# Altium schematic symbol library con-molex-mini-fit.SCHLIB: 168 symbols (part 1 of 4)
Pins are listed as number, name and electrical type; pins without a type are passive.

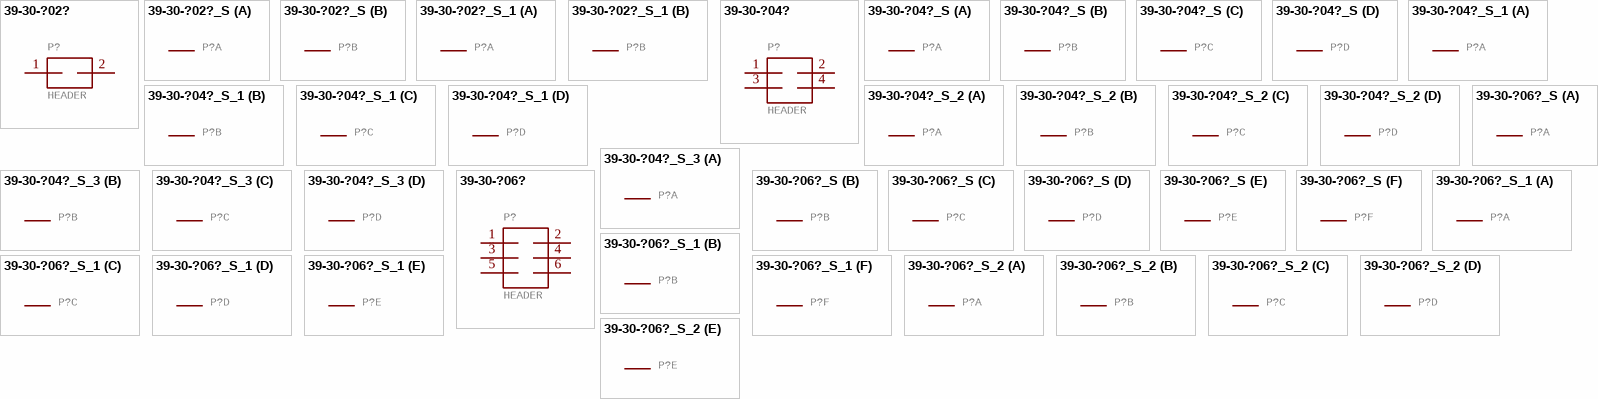
[diagram p0: symbols 39-30-?02? to 39-30-?06?_S_2]

## 39-30-?02?
designator P?, comment HEADER
GateName_1: G$1; SymbolName_1: MA01-2; DeviceSetName: 39-30-?02?; LibraryName: con-molex-mini-fit; Package: 39-30-?02?
footprint 39-30-?02?
pins: 1, 2

## 39-30-?02?_S
designator P?, comment HEADER  (value not drawn)
GateName_1: -1; SymbolName_1: P-NV; GateName_2: -2; SymbolName_2: P-N; DeviceSetName: 39-30-?02?_S; LibraryName: con-molex-mini-fit; Package: 39-30-?02?
footprint 39-30-?02?
part A pins: 1 P
part B pins: 2 P

## 39-30-?02?_S_1
designator P?, comment HEADER  (value not drawn)
GateName_1: -1; SymbolName_1: P-NV; GateName_2: -2; SymbolName_2: P-N; DeviceSetName: 39-30-?02?_S; LibraryName: con-molex-mini-fit; Package: 39-30-?02?
footprint 39-30-?02?
part A pins: 1 P
part B pins: 2 P

## 39-30-?04?
designator P?, comment HEADER
GateName_1: G$1; SymbolName_1: MA02-2; DeviceSetName: 39-30-?04?; LibraryName: con-molex-mini-fit; Package: 39-30-?04?
footprint 39-30-?04?
pins: 1, 2, 3, 4

## 39-30-?04?_S
designator P?, comment HEADER  (value not drawn)
GateName_1: -1; SymbolName_1: P-NV; GateName_2: -2; SymbolName_2: P-N; GateName_3: -3; GateName_4: -4; DeviceSetName: 39-30-?04?_S; SymbolName_3: P-N; SymbolName_4: P-N; LibraryName: con-molex-mini-fit; Package: 39-30-?04?
footprint 39-30-?04?
part A pins: 1 P
part B pins: 2 P
part C pins: 3 P
part D pins: 4 P

## 39-30-?04?_S_1
designator P?, comment HEADER  (value not drawn)
GateName_1: -1; SymbolName_1: P-NV; GateName_2: -2; SymbolName_2: P-N; GateName_3: -3; GateName_4: -4; DeviceSetName: 39-30-?04?_S; SymbolName_3: P-N; SymbolName_4: P-N; LibraryName: con-molex-mini-fit; Package: 39-30-?04?
footprint 39-30-?04?
part A pins: 1 P
part B pins: 2 P
part C pins: 3 P
part D pins: 4 P

## 39-30-?04?_S_2
designator P?, comment HEADER  (value not drawn)
GateName_1: -1; SymbolName_1: P-NV; GateName_2: -2; SymbolName_2: P-N; GateName_3: -3; GateName_4: -4; DeviceSetName: 39-30-?04?_S; SymbolName_3: P-N; SymbolName_4: P-N; LibraryName: con-molex-mini-fit; Package: 39-30-?04?
footprint 39-30-?04?
part A pins: 1 P
part B pins: 2 P
part C pins: 3 P
part D pins: 4 P

## 39-30-?04?_S_3
designator P?, comment HEADER  (value not drawn)
GateName_1: -1; SymbolName_1: P-NV; GateName_2: -2; SymbolName_2: P-N; GateName_3: -3; GateName_4: -4; DeviceSetName: 39-30-?04?_S; SymbolName_3: P-N; SymbolName_4: P-N; LibraryName: con-molex-mini-fit; Package: 39-30-?04?
footprint 39-30-?04?
part A pins: 1 P
part B pins: 2 P
part C pins: 3 P
part D pins: 4 P

## 39-30-?06?
designator P?, comment HEADER
GateName_1: G$1; SymbolName_1: MA03-2; DeviceSetName: 39-30-?06?; LibraryName: con-molex-mini-fit; Package: 39-30-?06?
footprint 39-30-?06?
pins: 1, 2, 3, 4, 5, 6

## 39-30-?06?_S
designator P?, comment HEADER  (value not drawn)
GateName_1: -1; SymbolName_1: P-NV; GateName_2: -2; SymbolName_2: P-N; GateName_3: -3; GateName_4: -4; GateName_5: -5; GateName_6: -6; DeviceSetName: 39-30-?06?_S; SymbolName_3: P-N; SymbolName_4: P-N; SymbolName_5: P-N; SymbolName_6: P-N; LibraryName: con-molex-mini-fit; Package: 39-30-?06?
footprint 39-30-?06?
part A pins: 1 P
part B pins: 2 P
part C pins: 3 P
part D pins: 4 P
part E pins: 5 P
part F pins: 6 P

## 39-30-?06?_S_1
designator P?, comment HEADER  (value not drawn)
GateName_1: -1; SymbolName_1: P-NV; GateName_2: -2; SymbolName_2: P-N; GateName_3: -3; GateName_4: -4; GateName_5: -5; GateName_6: -6; DeviceSetName: 39-30-?06?_S; SymbolName_3: P-N; SymbolName_4: P-N; SymbolName_5: P-N; SymbolName_6: P-N; LibraryName: con-molex-mini-fit; Package: 39-30-?06?
footprint 39-30-?06?
part A pins: 1 P
part B pins: 2 P
part C pins: 3 P
part D pins: 4 P
part E pins: 5 P
part F pins: 6 P

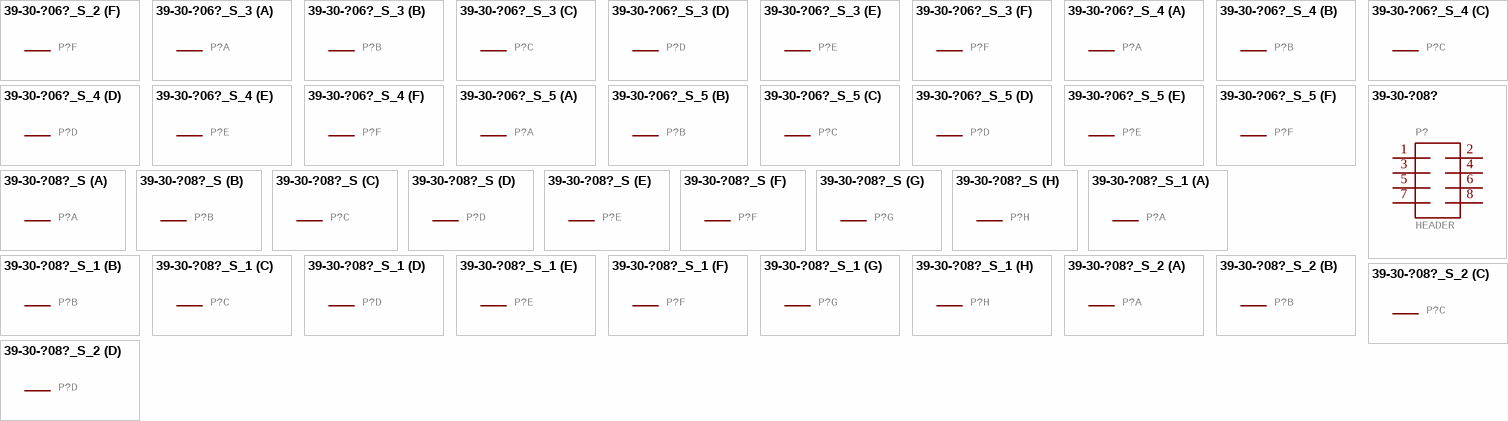
[diagram p1: symbols 39-30-?06?_S_2 to 39-30-?08?_S_2]

## 39-30-?06?_S_2
designator P?, comment HEADER  (value not drawn)
GateName_1: -1; SymbolName_1: P-NV; GateName_2: -2; SymbolName_2: P-N; GateName_3: -3; GateName_4: -4; GateName_5: -5; GateName_6: -6; DeviceSetName: 39-30-?06?_S; SymbolName_3: P-N; SymbolName_4: P-N; SymbolName_5: P-N; SymbolName_6: P-N; LibraryName: con-molex-mini-fit; Package: 39-30-?06?
footprint 39-30-?06?
part A pins: 1 P
part B pins: 2 P
part C pins: 3 P
part D pins: 4 P
part E pins: 5 P
part F pins: 6 P

## 39-30-?06?_S_3
designator P?, comment HEADER  (value not drawn)
GateName_1: -1; SymbolName_1: P-NV; GateName_2: -2; SymbolName_2: P-N; GateName_3: -3; GateName_4: -4; GateName_5: -5; GateName_6: -6; DeviceSetName: 39-30-?06?_S; SymbolName_3: P-N; SymbolName_4: P-N; SymbolName_5: P-N; SymbolName_6: P-N; LibraryName: con-molex-mini-fit; Package: 39-30-?06?
footprint 39-30-?06?
part A pins: 1 P
part B pins: 2 P
part C pins: 3 P
part D pins: 4 P
part E pins: 5 P
part F pins: 6 P

## 39-30-?06?_S_4
designator P?, comment HEADER  (value not drawn)
GateName_1: -1; SymbolName_1: P-NV; GateName_2: -2; SymbolName_2: P-N; GateName_3: -3; GateName_4: -4; GateName_5: -5; GateName_6: -6; DeviceSetName: 39-30-?06?_S; SymbolName_3: P-N; SymbolName_4: P-N; SymbolName_5: P-N; SymbolName_6: P-N; LibraryName: con-molex-mini-fit; Package: 39-30-?06?
footprint 39-30-?06?
part A pins: 1 P
part B pins: 2 P
part C pins: 3 P
part D pins: 4 P
part E pins: 5 P
part F pins: 6 P

## 39-30-?06?_S_5
designator P?, comment HEADER  (value not drawn)
GateName_1: -1; SymbolName_1: P-NV; GateName_2: -2; SymbolName_2: P-N; GateName_3: -3; GateName_4: -4; GateName_5: -5; GateName_6: -6; DeviceSetName: 39-30-?06?_S; SymbolName_3: P-N; SymbolName_4: P-N; SymbolName_5: P-N; SymbolName_6: P-N; LibraryName: con-molex-mini-fit; Package: 39-30-?06?
footprint 39-30-?06?
part A pins: 1 P
part B pins: 2 P
part C pins: 3 P
part D pins: 4 P
part E pins: 5 P
part F pins: 6 P

## 39-30-?08?
designator P?, comment HEADER
GateName_1: G$1; SymbolName_1: MA04-2; DeviceSetName: 39-30-?08?; LibraryName: con-molex-mini-fit; Package: 39-30-?08?
footprint 39-30-?08?
pins: 1, 2, 3, 4, 5, 6, 7, 8

## 39-30-?08?_S
designator P?, comment HEADER  (value not drawn)
GateName_1: -1; SymbolName_1: P-NV; GateName_2: -2; SymbolName_2: P-N; GateName_3: -3; GateName_4: -4; GateName_5: -5; GateName_6: -6; GateName_7: -7; GateName_8: -8; DeviceSetName: 39-30-?08?_S; SymbolName_3: P-N; SymbolName_4: P-N; SymbolName_5: P-N; SymbolName_6: P-N; SymbolName_7: P-N; SymbolName_8: P-N; LibraryName: con-molex-mini-fit; Package: 39-30-?08?
footprint 39-30-?08?
part A pins: 1 P
part B pins: 2 P
part C pins: 3 P
part D pins: 4 P
part E pins: 5 P
part F pins: 6 P
part G pins: 7 P
part H pins: 8 P

## 39-30-?08?_S_1
designator P?, comment HEADER  (value not drawn)
GateName_1: -1; SymbolName_1: P-NV; GateName_2: -2; SymbolName_2: P-N; GateName_3: -3; GateName_4: -4; GateName_5: -5; GateName_6: -6; GateName_7: -7; GateName_8: -8; DeviceSetName: 39-30-?08?_S; SymbolName_3: P-N; SymbolName_4: P-N; SymbolName_5: P-N; SymbolName_6: P-N; SymbolName_7: P-N; SymbolName_8: P-N; LibraryName: con-molex-mini-fit; Package: 39-30-?08?
footprint 39-30-?08?
part A pins: 1 P
part B pins: 2 P
part C pins: 3 P
part D pins: 4 P
part E pins: 5 P
part F pins: 6 P
part G pins: 7 P
part H pins: 8 P

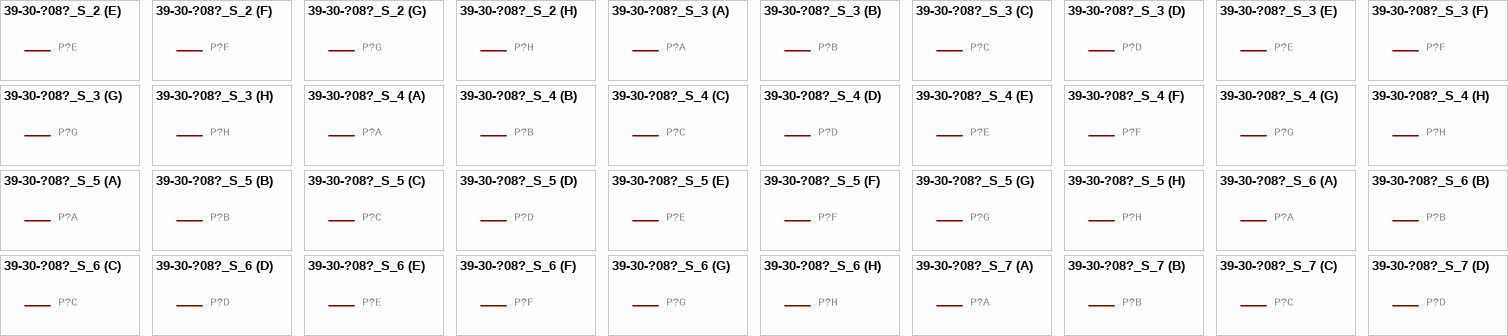
[diagram p2: symbols 39-30-?08?_S_2 to 39-30-?08?_S_7]

## 39-30-?08?_S_2
designator P?, comment HEADER  (value not drawn)
GateName_1: -1; SymbolName_1: P-NV; GateName_2: -2; SymbolName_2: P-N; GateName_3: -3; GateName_4: -4; GateName_5: -5; GateName_6: -6; GateName_7: -7; GateName_8: -8; DeviceSetName: 39-30-?08?_S; SymbolName_3: P-N; SymbolName_4: P-N; SymbolName_5: P-N; SymbolName_6: P-N; SymbolName_7: P-N; SymbolName_8: P-N; LibraryName: con-molex-mini-fit; Package: 39-30-?08?
footprint 39-30-?08?
part A pins: 1 P
part B pins: 2 P
part C pins: 3 P
part D pins: 4 P
part E pins: 5 P
part F pins: 6 P
part G pins: 7 P
part H pins: 8 P

## 39-30-?08?_S_3
designator P?, comment HEADER  (value not drawn)
GateName_1: -1; SymbolName_1: P-NV; GateName_2: -2; SymbolName_2: P-N; GateName_3: -3; GateName_4: -4; GateName_5: -5; GateName_6: -6; GateName_7: -7; GateName_8: -8; DeviceSetName: 39-30-?08?_S; SymbolName_3: P-N; SymbolName_4: P-N; SymbolName_5: P-N; SymbolName_6: P-N; SymbolName_7: P-N; SymbolName_8: P-N; LibraryName: con-molex-mini-fit; Package: 39-30-?08?
footprint 39-30-?08?
part A pins: 1 P
part B pins: 2 P
part C pins: 3 P
part D pins: 4 P
part E pins: 5 P
part F pins: 6 P
part G pins: 7 P
part H pins: 8 P

## 39-30-?08?_S_4
designator P?, comment HEADER  (value not drawn)
GateName_1: -1; SymbolName_1: P-NV; GateName_2: -2; SymbolName_2: P-N; GateName_3: -3; GateName_4: -4; GateName_5: -5; GateName_6: -6; GateName_7: -7; GateName_8: -8; DeviceSetName: 39-30-?08?_S; SymbolName_3: P-N; SymbolName_4: P-N; SymbolName_5: P-N; SymbolName_6: P-N; SymbolName_7: P-N; SymbolName_8: P-N; LibraryName: con-molex-mini-fit; Package: 39-30-?08?
footprint 39-30-?08?
part A pins: 1 P
part B pins: 2 P
part C pins: 3 P
part D pins: 4 P
part E pins: 5 P
part F pins: 6 P
part G pins: 7 P
part H pins: 8 P

## 39-30-?08?_S_5
designator P?, comment HEADER  (value not drawn)
GateName_1: -1; SymbolName_1: P-NV; GateName_2: -2; SymbolName_2: P-N; GateName_3: -3; GateName_4: -4; GateName_5: -5; GateName_6: -6; GateName_7: -7; GateName_8: -8; DeviceSetName: 39-30-?08?_S; SymbolName_3: P-N; SymbolName_4: P-N; SymbolName_5: P-N; SymbolName_6: P-N; SymbolName_7: P-N; SymbolName_8: P-N; LibraryName: con-molex-mini-fit; Package: 39-30-?08?
footprint 39-30-?08?
part A pins: 1 P
part B pins: 2 P
part C pins: 3 P
part D pins: 4 P
part E pins: 5 P
part F pins: 6 P
part G pins: 7 P
part H pins: 8 P

## 39-30-?08?_S_6
designator P?, comment HEADER  (value not drawn)
GateName_1: -1; SymbolName_1: P-NV; GateName_2: -2; SymbolName_2: P-N; GateName_3: -3; GateName_4: -4; GateName_5: -5; GateName_6: -6; GateName_7: -7; GateName_8: -8; DeviceSetName: 39-30-?08?_S; SymbolName_3: P-N; SymbolName_4: P-N; SymbolName_5: P-N; SymbolName_6: P-N; SymbolName_7: P-N; SymbolName_8: P-N; LibraryName: con-molex-mini-fit; Package: 39-30-?08?
footprint 39-30-?08?
part A pins: 1 P
part B pins: 2 P
part C pins: 3 P
part D pins: 4 P
part E pins: 5 P
part F pins: 6 P
part G pins: 7 P
part H pins: 8 P

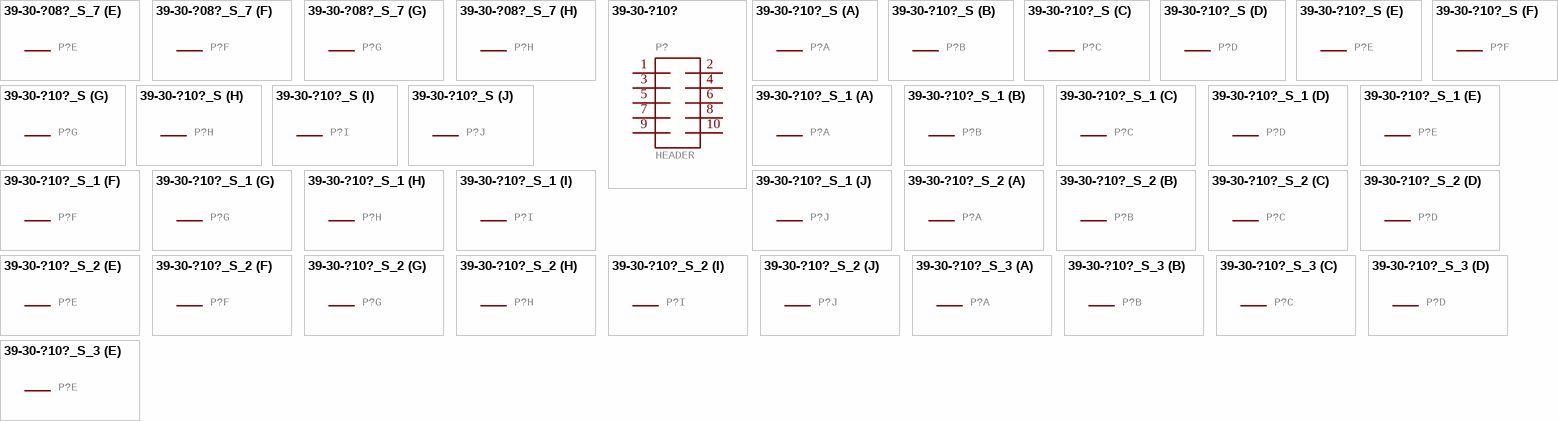
[diagram p3: symbols 39-30-?08?_S_7 to 39-30-?10?_S_3]

## 39-30-?08?_S_7
designator P?, comment HEADER  (value not drawn)
GateName_1: -1; SymbolName_1: P-NV; GateName_2: -2; SymbolName_2: P-N; GateName_3: -3; GateName_4: -4; GateName_5: -5; GateName_6: -6; GateName_7: -7; GateName_8: -8; DeviceSetName: 39-30-?08?_S; SymbolName_3: P-N; SymbolName_4: P-N; SymbolName_5: P-N; SymbolName_6: P-N; SymbolName_7: P-N; SymbolName_8: P-N; LibraryName: con-molex-mini-fit; Package: 39-30-?08?
footprint 39-30-?08?
part A pins: 1 P
part B pins: 2 P
part C pins: 3 P
part D pins: 4 P
part E pins: 5 P
part F pins: 6 P
part G pins: 7 P
part H pins: 8 P

## 39-30-?10?
designator P?, comment HEADER
GateName_1: G$1; SymbolName_1: MA05-2; DeviceSetName: 39-30-?10?; LibraryName: con-molex-mini-fit; Package: 39-30-?10?
footprint 39-30-?10?
pins: 1, 2, 3, 4, 5, 6, 7, 8, 9, 10

## 39-30-?10?_S
designator P?, comment HEADER  (value not drawn)
GateName_1: -1; SymbolName_1: P-NV; GateName_2: -2; SymbolName_2: P-N; GateName_3: -3; GateName_4: -4; GateName_5: -5; GateName_6: -6; GateName_7: -7; GateName_8: -8; GateName_9: -9; GateName_10: -10; DeviceSetName: 39-30-?10?_S; SymbolName_3: P-N; SymbolName_4: P-N; SymbolName_5: P-N; SymbolName_6: P-N; SymbolName_7: P-N; SymbolName_8: P-N; SymbolName_9: P-N; SymbolName_10: P-N; LibraryName: con-molex-mini-fit; Package: 39-30-?10?
footprint 39-30-?10?
part A pins: 1 P
part B pins: 2 P
part C pins: 3 P
part D pins: 4 P
part E pins: 5 P
part F pins: 6 P
part G pins: 7 P
part H pins: 8 P
part I pins: 9 P
part J pins: 10 P

## 39-30-?10?_S_1
designator P?, comment HEADER  (value not drawn)
GateName_1: -1; SymbolName_1: P-NV; GateName_2: -2; SymbolName_2: P-N; GateName_3: -3; GateName_4: -4; GateName_5: -5; GateName_6: -6; GateName_7: -7; GateName_8: -8; GateName_9: -9; GateName_10: -10; DeviceSetName: 39-30-?10?_S; SymbolName_3: P-N; SymbolName_4: P-N; SymbolName_5: P-N; SymbolName_6: P-N; SymbolName_7: P-N; SymbolName_8: P-N; SymbolName_9: P-N; SymbolName_10: P-N; LibraryName: con-molex-mini-fit; Package: 39-30-?10?
footprint 39-30-?10?
part A pins: 1 P
part B pins: 2 P
part C pins: 3 P
part D pins: 4 P
part E pins: 5 P
part F pins: 6 P
part G pins: 7 P
part H pins: 8 P
part I pins: 9 P
part J pins: 10 P

## 39-30-?10?_S_2
designator P?, comment HEADER  (value not drawn)
GateName_1: -1; SymbolName_1: P-NV; GateName_2: -2; SymbolName_2: P-N; GateName_3: -3; GateName_4: -4; GateName_5: -5; GateName_6: -6; GateName_7: -7; GateName_8: -8; GateName_9: -9; GateName_10: -10; DeviceSetName: 39-30-?10?_S; SymbolName_3: P-N; SymbolName_4: P-N; SymbolName_5: P-N; SymbolName_6: P-N; SymbolName_7: P-N; SymbolName_8: P-N; SymbolName_9: P-N; SymbolName_10: P-N; LibraryName: con-molex-mini-fit; Package: 39-30-?10?
footprint 39-30-?10?
part A pins: 1 P
part B pins: 2 P
part C pins: 3 P
part D pins: 4 P
part E pins: 5 P
part F pins: 6 P
part G pins: 7 P
part H pins: 8 P
part I pins: 9 P
part J pins: 10 P

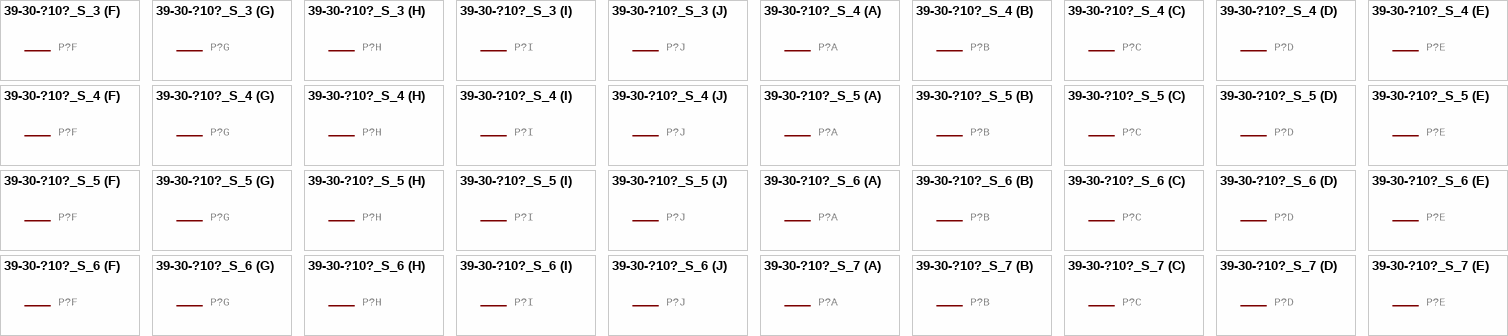
[diagram p4: symbols 39-30-?10?_S_3 to 39-30-?10?_S_7]

## 39-30-?10?_S_3
designator P?, comment HEADER  (value not drawn)
GateName_1: -1; SymbolName_1: P-NV; GateName_2: -2; SymbolName_2: P-N; GateName_3: -3; GateName_4: -4; GateName_5: -5; GateName_6: -6; GateName_7: -7; GateName_8: -8; GateName_9: -9; GateName_10: -10; DeviceSetName: 39-30-?10?_S; SymbolName_3: P-N; SymbolName_4: P-N; SymbolName_5: P-N; SymbolName_6: P-N; SymbolName_7: P-N; SymbolName_8: P-N; SymbolName_9: P-N; SymbolName_10: P-N; LibraryName: con-molex-mini-fit; Package: 39-30-?10?
footprint 39-30-?10?
part A pins: 1 P
part B pins: 2 P
part C pins: 3 P
part D pins: 4 P
part E pins: 5 P
part F pins: 6 P
part G pins: 7 P
part H pins: 8 P
part I pins: 9 P
part J pins: 10 P

## 39-30-?10?_S_4
designator P?, comment HEADER  (value not drawn)
GateName_1: -1; SymbolName_1: P-NV; GateName_2: -2; SymbolName_2: P-N; GateName_3: -3; GateName_4: -4; GateName_5: -5; GateName_6: -6; GateName_7: -7; GateName_8: -8; GateName_9: -9; GateName_10: -10; DeviceSetName: 39-30-?10?_S; SymbolName_3: P-N; SymbolName_4: P-N; SymbolName_5: P-N; SymbolName_6: P-N; SymbolName_7: P-N; SymbolName_8: P-N; SymbolName_9: P-N; SymbolName_10: P-N; LibraryName: con-molex-mini-fit; Package: 39-30-?10?
footprint 39-30-?10?
part A pins: 1 P
part B pins: 2 P
part C pins: 3 P
part D pins: 4 P
part E pins: 5 P
part F pins: 6 P
part G pins: 7 P
part H pins: 8 P
part I pins: 9 P
part J pins: 10 P

## 39-30-?10?_S_5
designator P?, comment HEADER  (value not drawn)
GateName_1: -1; SymbolName_1: P-NV; GateName_2: -2; SymbolName_2: P-N; GateName_3: -3; GateName_4: -4; GateName_5: -5; GateName_6: -6; GateName_7: -7; GateName_8: -8; GateName_9: -9; GateName_10: -10; DeviceSetName: 39-30-?10?_S; SymbolName_3: P-N; SymbolName_4: P-N; SymbolName_5: P-N; SymbolName_6: P-N; SymbolName_7: P-N; SymbolName_8: P-N; SymbolName_9: P-N; SymbolName_10: P-N; LibraryName: con-molex-mini-fit; Package: 39-30-?10?
footprint 39-30-?10?
part A pins: 1 P
part B pins: 2 P
part C pins: 3 P
part D pins: 4 P
part E pins: 5 P
part F pins: 6 P
part G pins: 7 P
part H pins: 8 P
part I pins: 9 P
part J pins: 10 P

## 39-30-?10?_S_6
designator P?, comment HEADER  (value not drawn)
GateName_1: -1; SymbolName_1: P-NV; GateName_2: -2; SymbolName_2: P-N; GateName_3: -3; GateName_4: -4; GateName_5: -5; GateName_6: -6; GateName_7: -7; GateName_8: -8; GateName_9: -9; GateName_10: -10; DeviceSetName: 39-30-?10?_S; SymbolName_3: P-N; SymbolName_4: P-N; SymbolName_5: P-N; SymbolName_6: P-N; SymbolName_7: P-N; SymbolName_8: P-N; SymbolName_9: P-N; SymbolName_10: P-N; LibraryName: con-molex-mini-fit; Package: 39-30-?10?
footprint 39-30-?10?
part A pins: 1 P
part B pins: 2 P
part C pins: 3 P
part D pins: 4 P
part E pins: 5 P
part F pins: 6 P
part G pins: 7 P
part H pins: 8 P
part I pins: 9 P
part J pins: 10 P

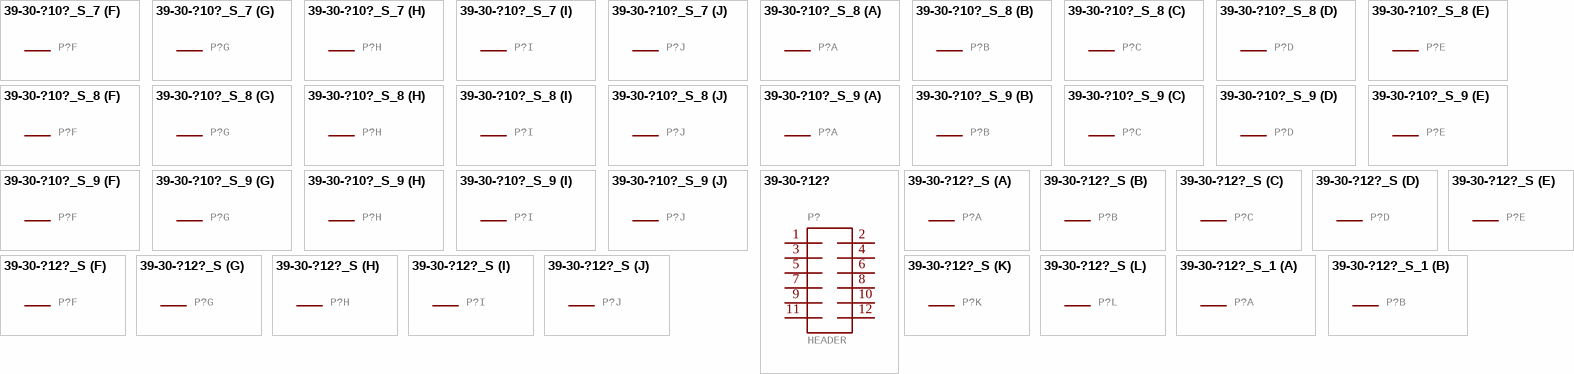
[diagram p5: symbols 39-30-?10?_S_7 to 39-30-?12?_S_1]

## 39-30-?10?_S_7
designator P?, comment HEADER  (value not drawn)
GateName_1: -1; SymbolName_1: P-NV; GateName_2: -2; SymbolName_2: P-N; GateName_3: -3; GateName_4: -4; GateName_5: -5; GateName_6: -6; GateName_7: -7; GateName_8: -8; GateName_9: -9; GateName_10: -10; DeviceSetName: 39-30-?10?_S; SymbolName_3: P-N; SymbolName_4: P-N; SymbolName_5: P-N; SymbolName_6: P-N; SymbolName_7: P-N; SymbolName_8: P-N; SymbolName_9: P-N; SymbolName_10: P-N; LibraryName: con-molex-mini-fit; Package: 39-30-?10?
footprint 39-30-?10?
part A pins: 1 P
part B pins: 2 P
part C pins: 3 P
part D pins: 4 P
part E pins: 5 P
part F pins: 6 P
part G pins: 7 P
part H pins: 8 P
part I pins: 9 P
part J pins: 10 P

## 39-30-?10?_S_8
designator P?, comment HEADER  (value not drawn)
GateName_1: -1; SymbolName_1: P-NV; GateName_2: -2; SymbolName_2: P-N; GateName_3: -3; GateName_4: -4; GateName_5: -5; GateName_6: -6; GateName_7: -7; GateName_8: -8; GateName_9: -9; GateName_10: -10; DeviceSetName: 39-30-?10?_S; SymbolName_3: P-N; SymbolName_4: P-N; SymbolName_5: P-N; SymbolName_6: P-N; SymbolName_7: P-N; SymbolName_8: P-N; SymbolName_9: P-N; SymbolName_10: P-N; LibraryName: con-molex-mini-fit; Package: 39-30-?10?
footprint 39-30-?10?
part A pins: 1 P
part B pins: 2 P
part C pins: 3 P
part D pins: 4 P
part E pins: 5 P
part F pins: 6 P
part G pins: 7 P
part H pins: 8 P
part I pins: 9 P
part J pins: 10 P

## 39-30-?10?_S_9
designator P?, comment HEADER  (value not drawn)
GateName_1: -1; SymbolName_1: P-NV; GateName_2: -2; SymbolName_2: P-N; GateName_3: -3; GateName_4: -4; GateName_5: -5; GateName_6: -6; GateName_7: -7; GateName_8: -8; GateName_9: -9; GateName_10: -10; DeviceSetName: 39-30-?10?_S; SymbolName_3: P-N; SymbolName_4: P-N; SymbolName_5: P-N; SymbolName_6: P-N; SymbolName_7: P-N; SymbolName_8: P-N; SymbolName_9: P-N; SymbolName_10: P-N; LibraryName: con-molex-mini-fit; Package: 39-30-?10?
footprint 39-30-?10?
part A pins: 1 P
part B pins: 2 P
part C pins: 3 P
part D pins: 4 P
part E pins: 5 P
part F pins: 6 P
part G pins: 7 P
part H pins: 8 P
part I pins: 9 P
part J pins: 10 P

## 39-30-?12?
designator P?, comment HEADER
GateName_1: G$1; SymbolName_1: MA06-2; DeviceSetName: 39-30-?12?; LibraryName: con-molex-mini-fit; Package: 39-30-?12?
footprint 39-30-?12?
pins: 1, 2, 3, 4, 5, 6, 7, 8, 9, 10, 11, 12

## 39-30-?12?_S
designator P?, comment HEADER  (value not drawn)
GateName_1: -1; SymbolName_1: P-NV; GateName_2: -2; SymbolName_2: P-N; GateName_3: -3; GateName_4: -4; GateName_5: -5; GateName_6: -6; GateName_7: -7; GateName_8: -8; GateName_9: -9; GateName_10: -10; GateName_11: -11; GateName_12: -12; DeviceSetName: 39-30-?12?_S; SymbolName_3: P-N; SymbolName_4: P-N; SymbolName_5: P-N; SymbolName_6: P-N; SymbolName_7: P-N; SymbolName_8: P-N; SymbolName_9: P-N; SymbolName_10: P-N; SymbolName_11: P-N; SymbolName_12: P-N; LibraryName: con-molex-mini-fit; Package: 39-30-?12?
footprint 39-30-?12?
part A pins: 1 P
part B pins: 2 P
part C pins: 3 P
part D pins: 4 P
part E pins: 5 P
part F pins: 6 P
part G pins: 7 P
part H pins: 8 P
part I pins: 9 P
part J pins: 10 P
part K pins: 11 P
part L pins: 12 P

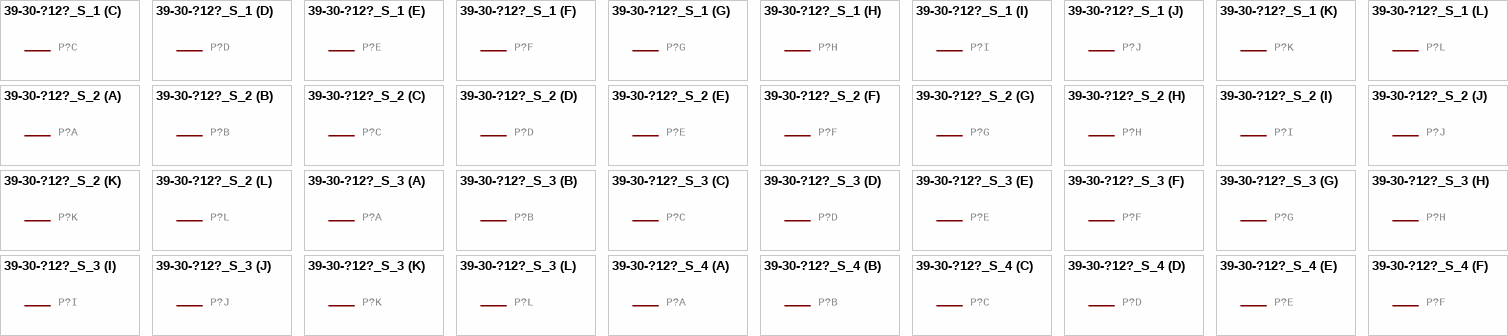
[diagram p6: symbols 39-30-?12?_S_1 to 39-30-?12?_S_4]

## 39-30-?12?_S_1
designator P?, comment HEADER  (value not drawn)
GateName_1: -1; SymbolName_1: P-NV; GateName_2: -2; SymbolName_2: P-N; GateName_3: -3; GateName_4: -4; GateName_5: -5; GateName_6: -6; GateName_7: -7; GateName_8: -8; GateName_9: -9; GateName_10: -10; GateName_11: -11; GateName_12: -12; DeviceSetName: 39-30-?12?_S; SymbolName_3: P-N; SymbolName_4: P-N; SymbolName_5: P-N; SymbolName_6: P-N; SymbolName_7: P-N; SymbolName_8: P-N; SymbolName_9: P-N; SymbolName_10: P-N; SymbolName_11: P-N; SymbolName_12: P-N; LibraryName: con-molex-mini-fit; Package: 39-30-?12?
footprint 39-30-?12?
part A pins: 1 P
part B pins: 2 P
part C pins: 3 P
part D pins: 4 P
part E pins: 5 P
part F pins: 6 P
part G pins: 7 P
part H pins: 8 P
part I pins: 9 P
part J pins: 10 P
part K pins: 11 P
part L pins: 12 P

## 39-30-?12?_S_2
designator P?, comment HEADER  (value not drawn)
GateName_1: -1; SymbolName_1: P-NV; GateName_2: -2; SymbolName_2: P-N; GateName_3: -3; GateName_4: -4; GateName_5: -5; GateName_6: -6; GateName_7: -7; GateName_8: -8; GateName_9: -9; GateName_10: -10; GateName_11: -11; GateName_12: -12; DeviceSetName: 39-30-?12?_S; SymbolName_3: P-N; SymbolName_4: P-N; SymbolName_5: P-N; SymbolName_6: P-N; SymbolName_7: P-N; SymbolName_8: P-N; SymbolName_9: P-N; SymbolName_10: P-N; SymbolName_11: P-N; SymbolName_12: P-N; LibraryName: con-molex-mini-fit; Package: 39-30-?12?
footprint 39-30-?12?
part A pins: 1 P
part B pins: 2 P
part C pins: 3 P
part D pins: 4 P
part E pins: 5 P
part F pins: 6 P
part G pins: 7 P
part H pins: 8 P
part I pins: 9 P
part J pins: 10 P
part K pins: 11 P
part L pins: 12 P

## 39-30-?12?_S_3
designator P?, comment HEADER  (value not drawn)
GateName_1: -1; SymbolName_1: P-NV; GateName_2: -2; SymbolName_2: P-N; GateName_3: -3; GateName_4: -4; GateName_5: -5; GateName_6: -6; GateName_7: -7; GateName_8: -8; GateName_9: -9; GateName_10: -10; GateName_11: -11; GateName_12: -12; DeviceSetName: 39-30-?12?_S; SymbolName_3: P-N; SymbolName_4: P-N; SymbolName_5: P-N; SymbolName_6: P-N; SymbolName_7: P-N; SymbolName_8: P-N; SymbolName_9: P-N; SymbolName_10: P-N; SymbolName_11: P-N; SymbolName_12: P-N; LibraryName: con-molex-mini-fit; Package: 39-30-?12?
footprint 39-30-?12?
part A pins: 1 P
part B pins: 2 P
part C pins: 3 P
part D pins: 4 P
part E pins: 5 P
part F pins: 6 P
part G pins: 7 P
part H pins: 8 P
part I pins: 9 P
part J pins: 10 P
part K pins: 11 P
part L pins: 12 P

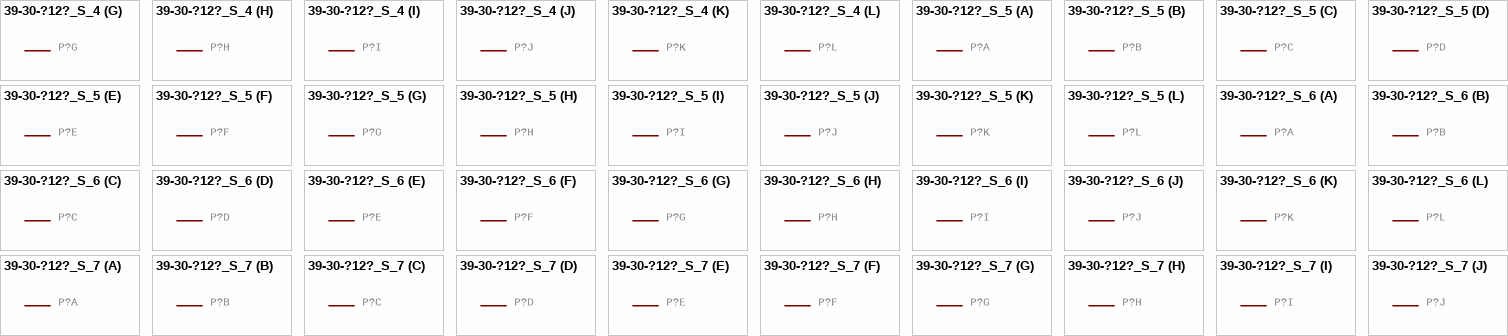
[diagram p7: symbols 39-30-?12?_S_4 to 39-30-?12?_S_7]

## 39-30-?12?_S_4
designator P?, comment HEADER  (value not drawn)
GateName_1: -1; SymbolName_1: P-NV; GateName_2: -2; SymbolName_2: P-N; GateName_3: -3; GateName_4: -4; GateName_5: -5; GateName_6: -6; GateName_7: -7; GateName_8: -8; GateName_9: -9; GateName_10: -10; GateName_11: -11; GateName_12: -12; DeviceSetName: 39-30-?12?_S; SymbolName_3: P-N; SymbolName_4: P-N; SymbolName_5: P-N; SymbolName_6: P-N; SymbolName_7: P-N; SymbolName_8: P-N; SymbolName_9: P-N; SymbolName_10: P-N; SymbolName_11: P-N; SymbolName_12: P-N; LibraryName: con-molex-mini-fit; Package: 39-30-?12?
footprint 39-30-?12?
part A pins: 1 P
part B pins: 2 P
part C pins: 3 P
part D pins: 4 P
part E pins: 5 P
part F pins: 6 P
part G pins: 7 P
part H pins: 8 P
part I pins: 9 P
part J pins: 10 P
part K pins: 11 P
part L pins: 12 P

## 39-30-?12?_S_5
designator P?, comment HEADER  (value not drawn)
GateName_1: -1; SymbolName_1: P-NV; GateName_2: -2; SymbolName_2: P-N; GateName_3: -3; GateName_4: -4; GateName_5: -5; GateName_6: -6; GateName_7: -7; GateName_8: -8; GateName_9: -9; GateName_10: -10; GateName_11: -11; GateName_12: -12; DeviceSetName: 39-30-?12?_S; SymbolName_3: P-N; SymbolName_4: P-N; SymbolName_5: P-N; SymbolName_6: P-N; SymbolName_7: P-N; SymbolName_8: P-N; SymbolName_9: P-N; SymbolName_10: P-N; SymbolName_11: P-N; SymbolName_12: P-N; LibraryName: con-molex-mini-fit; Package: 39-30-?12?
footprint 39-30-?12?
part A pins: 1 P
part B pins: 2 P
part C pins: 3 P
part D pins: 4 P
part E pins: 5 P
part F pins: 6 P
part G pins: 7 P
part H pins: 8 P
part I pins: 9 P
part J pins: 10 P
part K pins: 11 P
part L pins: 12 P

## 39-30-?12?_S_6
designator P?, comment HEADER  (value not drawn)
GateName_1: -1; SymbolName_1: P-NV; GateName_2: -2; SymbolName_2: P-N; GateName_3: -3; GateName_4: -4; GateName_5: -5; GateName_6: -6; GateName_7: -7; GateName_8: -8; GateName_9: -9; GateName_10: -10; GateName_11: -11; GateName_12: -12; DeviceSetName: 39-30-?12?_S; SymbolName_3: P-N; SymbolName_4: P-N; SymbolName_5: P-N; SymbolName_6: P-N; SymbolName_7: P-N; SymbolName_8: P-N; SymbolName_9: P-N; SymbolName_10: P-N; SymbolName_11: P-N; SymbolName_12: P-N; LibraryName: con-molex-mini-fit; Package: 39-30-?12?
footprint 39-30-?12?
part A pins: 1 P
part B pins: 2 P
part C pins: 3 P
part D pins: 4 P
part E pins: 5 P
part F pins: 6 P
part G pins: 7 P
part H pins: 8 P
part I pins: 9 P
part J pins: 10 P
part K pins: 11 P
part L pins: 12 P

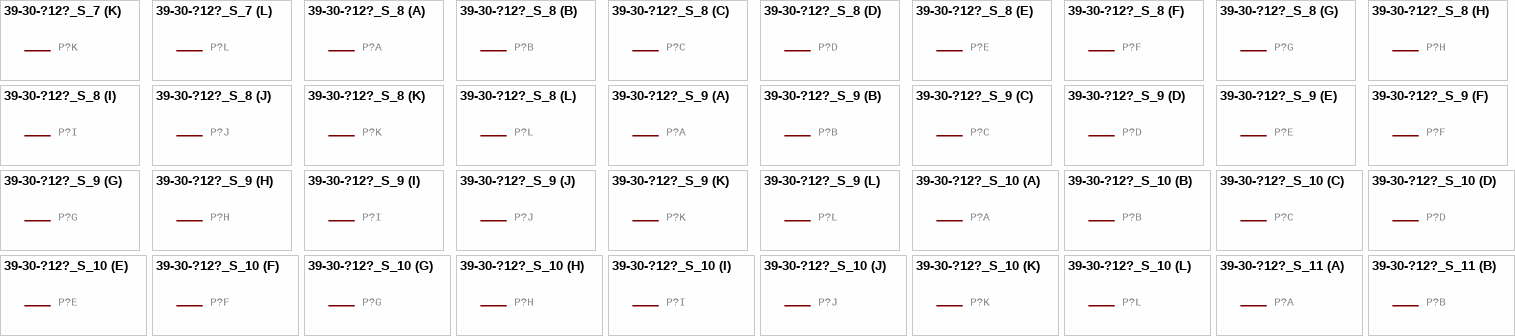
[diagram p8: symbols 39-30-?12?_S_7 to 39-30-?12?_S_11]

## 39-30-?12?_S_7
designator P?, comment HEADER  (value not drawn)
GateName_1: -1; SymbolName_1: P-NV; GateName_2: -2; SymbolName_2: P-N; GateName_3: -3; GateName_4: -4; GateName_5: -5; GateName_6: -6; GateName_7: -7; GateName_8: -8; GateName_9: -9; GateName_10: -10; GateName_11: -11; GateName_12: -12; DeviceSetName: 39-30-?12?_S; SymbolName_3: P-N; SymbolName_4: P-N; SymbolName_5: P-N; SymbolName_6: P-N; SymbolName_7: P-N; SymbolName_8: P-N; SymbolName_9: P-N; SymbolName_10: P-N; SymbolName_11: P-N; SymbolName_12: P-N; LibraryName: con-molex-mini-fit; Package: 39-30-?12?
footprint 39-30-?12?
part A pins: 1 P
part B pins: 2 P
part C pins: 3 P
part D pins: 4 P
part E pins: 5 P
part F pins: 6 P
part G pins: 7 P
part H pins: 8 P
part I pins: 9 P
part J pins: 10 P
part K pins: 11 P
part L pins: 12 P

## 39-30-?12?_S_8
designator P?, comment HEADER  (value not drawn)
GateName_1: -1; SymbolName_1: P-NV; GateName_2: -2; SymbolName_2: P-N; GateName_3: -3; GateName_4: -4; GateName_5: -5; GateName_6: -6; GateName_7: -7; GateName_8: -8; GateName_9: -9; GateName_10: -10; GateName_11: -11; GateName_12: -12; DeviceSetName: 39-30-?12?_S; SymbolName_3: P-N; SymbolName_4: P-N; SymbolName_5: P-N; SymbolName_6: P-N; SymbolName_7: P-N; SymbolName_8: P-N; SymbolName_9: P-N; SymbolName_10: P-N; SymbolName_11: P-N; SymbolName_12: P-N; LibraryName: con-molex-mini-fit; Package: 39-30-?12?
footprint 39-30-?12?
part A pins: 1 P
part B pins: 2 P
part C pins: 3 P
part D pins: 4 P
part E pins: 5 P
part F pins: 6 P
part G pins: 7 P
part H pins: 8 P
part I pins: 9 P
part J pins: 10 P
part K pins: 11 P
part L pins: 12 P

## 39-30-?12?_S_9
designator P?, comment HEADER  (value not drawn)
GateName_1: -1; SymbolName_1: P-NV; GateName_2: -2; SymbolName_2: P-N; GateName_3: -3; GateName_4: -4; GateName_5: -5; GateName_6: -6; GateName_7: -7; GateName_8: -8; GateName_9: -9; GateName_10: -10; GateName_11: -11; GateName_12: -12; DeviceSetName: 39-30-?12?_S; SymbolName_3: P-N; SymbolName_4: P-N; SymbolName_5: P-N; SymbolName_6: P-N; SymbolName_7: P-N; SymbolName_8: P-N; SymbolName_9: P-N; SymbolName_10: P-N; SymbolName_11: P-N; SymbolName_12: P-N; LibraryName: con-molex-mini-fit; Package: 39-30-?12?
footprint 39-30-?12?
part A pins: 1 P
part B pins: 2 P
part C pins: 3 P
part D pins: 4 P
part E pins: 5 P
part F pins: 6 P
part G pins: 7 P
part H pins: 8 P
part I pins: 9 P
part J pins: 10 P
part K pins: 11 P
part L pins: 12 P

## 39-30-?12?_S_10
designator P?, comment HEADER  (value not drawn)
GateName_1: -1; SymbolName_1: P-NV; GateName_2: -2; SymbolName_2: P-N; GateName_3: -3; GateName_4: -4; GateName_5: -5; GateName_6: -6; GateName_7: -7; GateName_8: -8; GateName_9: -9; GateName_10: -10; GateName_11: -11; GateName_12: -12; DeviceSetName: 39-30-?12?_S; SymbolName_3: P-N; SymbolName_4: P-N; SymbolName_5: P-N; SymbolName_6: P-N; SymbolName_7: P-N; SymbolName_8: P-N; SymbolName_9: P-N; SymbolName_10: P-N; SymbolName_11: P-N; SymbolName_12: P-N; LibraryName: con-molex-mini-fit; Package: 39-30-?12?
footprint 39-30-?12?
part A pins: 1 P
part B pins: 2 P
part C pins: 3 P
part D pins: 4 P
part E pins: 5 P
part F pins: 6 P
part G pins: 7 P
part H pins: 8 P
part I pins: 9 P
part J pins: 10 P
part K pins: 11 P
part L pins: 12 P

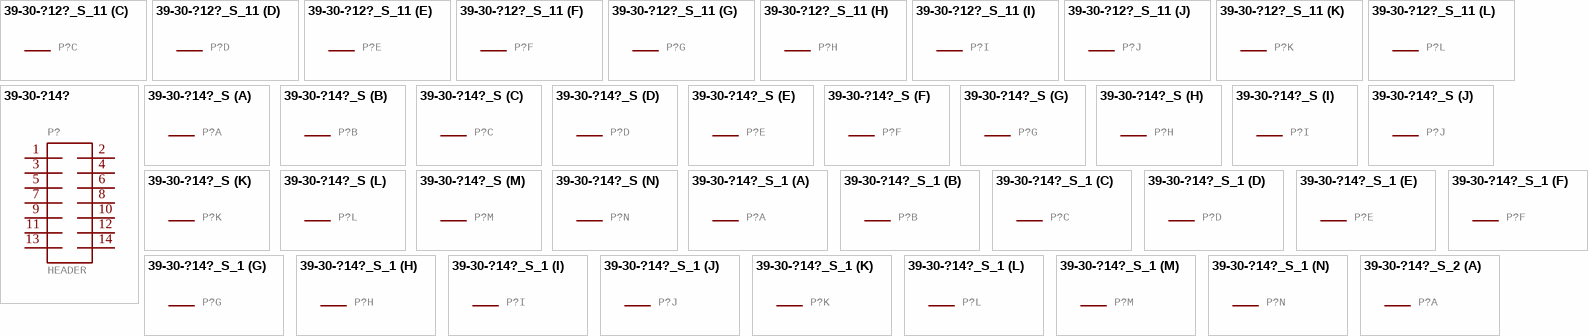
[diagram p9: symbols 39-30-?12?_S_11 to 39-30-?14?_S_2]

## 39-30-?12?_S_11
designator P?, comment HEADER  (value not drawn)
GateName_1: -1; SymbolName_1: P-NV; GateName_2: -2; SymbolName_2: P-N; GateName_3: -3; GateName_4: -4; GateName_5: -5; GateName_6: -6; GateName_7: -7; GateName_8: -8; GateName_9: -9; GateName_10: -10; GateName_11: -11; GateName_12: -12; DeviceSetName: 39-30-?12?_S; SymbolName_3: P-N; SymbolName_4: P-N; SymbolName_5: P-N; SymbolName_6: P-N; SymbolName_7: P-N; SymbolName_8: P-N; SymbolName_9: P-N; SymbolName_10: P-N; SymbolName_11: P-N; SymbolName_12: P-N; LibraryName: con-molex-mini-fit; Package: 39-30-?12?
footprint 39-30-?12?
part A pins: 1 P
part B pins: 2 P
part C pins: 3 P
part D pins: 4 P
part E pins: 5 P
part F pins: 6 P
part G pins: 7 P
part H pins: 8 P
part I pins: 9 P
part J pins: 10 P
part K pins: 11 P
part L pins: 12 P

## 39-30-?14?
designator P?, comment HEADER
GateName_1: G$1; SymbolName_1: MA07-2; DeviceSetName: 39-30-?14?; LibraryName: con-molex-mini-fit; Package: 39-30-?14?
footprint 39-30-?14?
pins: 1, 2, 3, 4, 5, 6, 7, 8, 9, 10, 11, 12, 13, 14

## 39-30-?14?_S
designator P?, comment HEADER  (value not drawn)
GateName_1: -1; SymbolName_1: P-NV; GateName_2: -2; SymbolName_2: P-N; GateName_3: -3; GateName_4: -4; GateName_5: -5; GateName_6: -6; GateName_7: -7; GateName_8: -8; GateName_9: -9; GateName_10: -10; GateName_11: -11; GateName_12: -12; GateName_13: -13; GateName_14: -14; DeviceSetName: 39-30-?14?_S; SymbolName_3: P-N; SymbolName_4: P-N; SymbolName_5: P-N; SymbolName_6: P-N; SymbolName_7: P-N; SymbolName_8: P-N; SymbolName_9: P-N; SymbolName_10: P-N; SymbolName_11: P-N; SymbolName_12: P-N; SymbolName_13: P-N; SymbolName_14: P-N; LibraryName: con-molex-mini-fit; Package: 39-30-?14?
footprint 39-30-?14?
part A pins: 1 P
part B pins: 2 P
part C pins: 3 P
part D pins: 4 P
part E pins: 5 P
part F pins: 6 P
part G pins: 7 P
part H pins: 8 P
part I pins: 9 P
part J pins: 10 P
part K pins: 11 P
part L pins: 12 P
part M pins: 13 P
part N pins: 14 P

## 39-30-?14?_S_1
designator P?, comment HEADER  (value not drawn)
GateName_1: -1; SymbolName_1: P-NV; GateName_2: -2; SymbolName_2: P-N; GateName_3: -3; GateName_4: -4; GateName_5: -5; GateName_6: -6; GateName_7: -7; GateName_8: -8; GateName_9: -9; GateName_10: -10; GateName_11: -11; GateName_12: -12; GateName_13: -13; GateName_14: -14; DeviceSetName: 39-30-?14?_S; SymbolName_3: P-N; SymbolName_4: P-N; SymbolName_5: P-N; SymbolName_6: P-N; SymbolName_7: P-N; SymbolName_8: P-N; SymbolName_9: P-N; SymbolName_10: P-N; SymbolName_11: P-N; SymbolName_12: P-N; SymbolName_13: P-N; SymbolName_14: P-N; LibraryName: con-molex-mini-fit; Package: 39-30-?14?
footprint 39-30-?14?
part A pins: 1 P
part B pins: 2 P
part C pins: 3 P
part D pins: 4 P
part E pins: 5 P
part F pins: 6 P
part G pins: 7 P
part H pins: 8 P
part I pins: 9 P
part J pins: 10 P
part K pins: 11 P
part L pins: 12 P
part M pins: 13 P
part N pins: 14 P

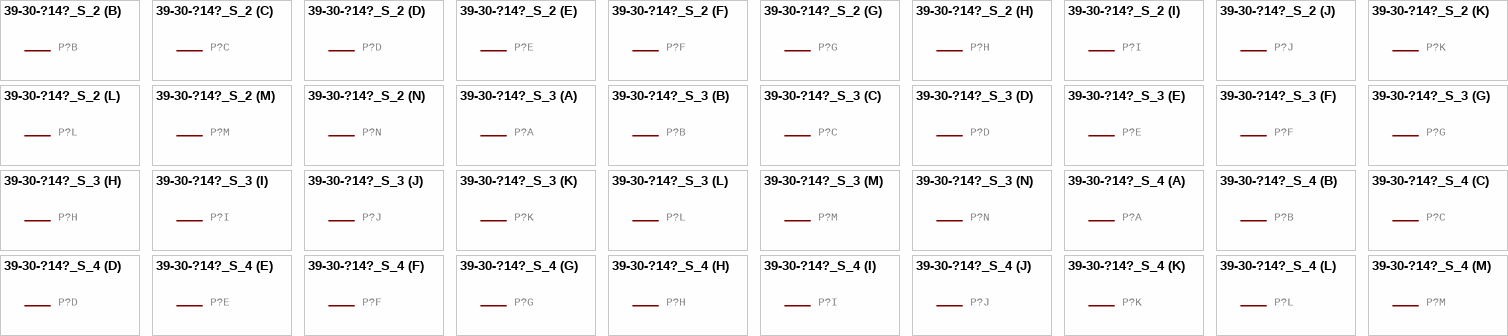
[diagram p10: symbols 39-30-?14?_S_2 to 39-30-?14?_S_4]

## 39-30-?14?_S_2
designator P?, comment HEADER  (value not drawn)
GateName_1: -1; SymbolName_1: P-NV; GateName_2: -2; SymbolName_2: P-N; GateName_3: -3; GateName_4: -4; GateName_5: -5; GateName_6: -6; GateName_7: -7; GateName_8: -8; GateName_9: -9; GateName_10: -10; GateName_11: -11; GateName_12: -12; GateName_13: -13; GateName_14: -14; DeviceSetName: 39-30-?14?_S; SymbolName_3: P-N; SymbolName_4: P-N; SymbolName_5: P-N; SymbolName_6: P-N; SymbolName_7: P-N; SymbolName_8: P-N; SymbolName_9: P-N; SymbolName_10: P-N; SymbolName_11: P-N; SymbolName_12: P-N; SymbolName_13: P-N; SymbolName_14: P-N; LibraryName: con-molex-mini-fit; Package: 39-30-?14?
footprint 39-30-?14?
part A pins: 1 P
part B pins: 2 P
part C pins: 3 P
part D pins: 4 P
part E pins: 5 P
part F pins: 6 P
part G pins: 7 P
part H pins: 8 P
part I pins: 9 P
part J pins: 10 P
part K pins: 11 P
part L pins: 12 P
part M pins: 13 P
part N pins: 14 P

## 39-30-?14?_S_3
designator P?, comment HEADER  (value not drawn)
GateName_1: -1; SymbolName_1: P-NV; GateName_2: -2; SymbolName_2: P-N; GateName_3: -3; GateName_4: -4; GateName_5: -5; GateName_6: -6; GateName_7: -7; GateName_8: -8; GateName_9: -9; GateName_10: -10; GateName_11: -11; GateName_12: -12; GateName_13: -13; GateName_14: -14; DeviceSetName: 39-30-?14?_S; SymbolName_3: P-N; SymbolName_4: P-N; SymbolName_5: P-N; SymbolName_6: P-N; SymbolName_7: P-N; SymbolName_8: P-N; SymbolName_9: P-N; SymbolName_10: P-N; SymbolName_11: P-N; SymbolName_12: P-N; SymbolName_13: P-N; SymbolName_14: P-N; LibraryName: con-molex-mini-fit; Package: 39-30-?14?
footprint 39-30-?14?
part A pins: 1 P
part B pins: 2 P
part C pins: 3 P
part D pins: 4 P
part E pins: 5 P
part F pins: 6 P
part G pins: 7 P
part H pins: 8 P
part I pins: 9 P
part J pins: 10 P
part K pins: 11 P
part L pins: 12 P
part M pins: 13 P
part N pins: 14 P

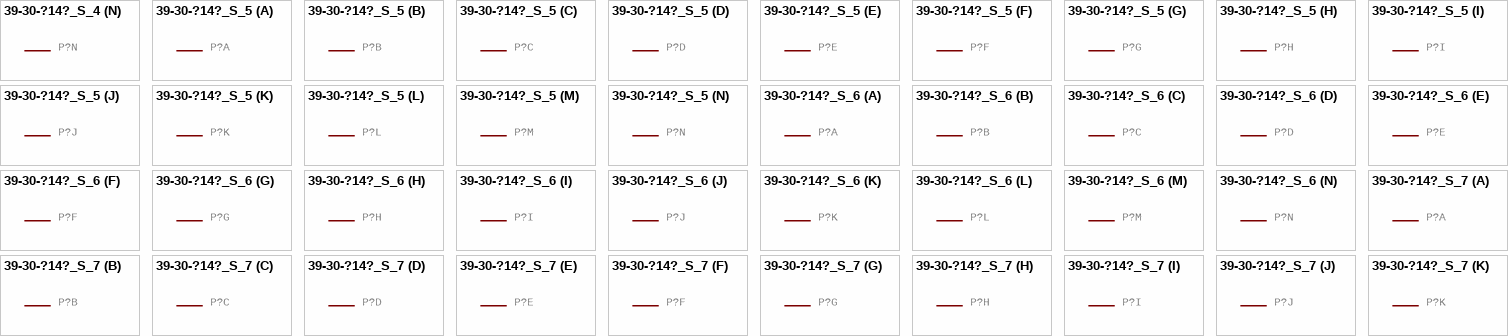
[diagram p11: symbols 39-30-?14?_S_4 to 39-30-?14?_S_7]

## 39-30-?14?_S_4
designator P?, comment HEADER  (value not drawn)
GateName_1: -1; SymbolName_1: P-NV; GateName_2: -2; SymbolName_2: P-N; GateName_3: -3; GateName_4: -4; GateName_5: -5; GateName_6: -6; GateName_7: -7; GateName_8: -8; GateName_9: -9; GateName_10: -10; GateName_11: -11; GateName_12: -12; GateName_13: -13; GateName_14: -14; DeviceSetName: 39-30-?14?_S; SymbolName_3: P-N; SymbolName_4: P-N; SymbolName_5: P-N; SymbolName_6: P-N; SymbolName_7: P-N; SymbolName_8: P-N; SymbolName_9: P-N; SymbolName_10: P-N; SymbolName_11: P-N; SymbolName_12: P-N; SymbolName_13: P-N; SymbolName_14: P-N; LibraryName: con-molex-mini-fit; Package: 39-30-?14?
footprint 39-30-?14?
part A pins: 1 P
part B pins: 2 P
part C pins: 3 P
part D pins: 4 P
part E pins: 5 P
part F pins: 6 P
part G pins: 7 P
part H pins: 8 P
part I pins: 9 P
part J pins: 10 P
part K pins: 11 P
part L pins: 12 P
part M pins: 13 P
part N pins: 14 P

## 39-30-?14?_S_5
designator P?, comment HEADER  (value not drawn)
GateName_1: -1; SymbolName_1: P-NV; GateName_2: -2; SymbolName_2: P-N; GateName_3: -3; GateName_4: -4; GateName_5: -5; GateName_6: -6; GateName_7: -7; GateName_8: -8; GateName_9: -9; GateName_10: -10; GateName_11: -11; GateName_12: -12; GateName_13: -13; GateName_14: -14; DeviceSetName: 39-30-?14?_S; SymbolName_3: P-N; SymbolName_4: P-N; SymbolName_5: P-N; SymbolName_6: P-N; SymbolName_7: P-N; SymbolName_8: P-N; SymbolName_9: P-N; SymbolName_10: P-N; SymbolName_11: P-N; SymbolName_12: P-N; SymbolName_13: P-N; SymbolName_14: P-N; LibraryName: con-molex-mini-fit; Package: 39-30-?14?
footprint 39-30-?14?
part A pins: 1 P
part B pins: 2 P
part C pins: 3 P
part D pins: 4 P
part E pins: 5 P
part F pins: 6 P
part G pins: 7 P
part H pins: 8 P
part I pins: 9 P
part J pins: 10 P
part K pins: 11 P
part L pins: 12 P
part M pins: 13 P
part N pins: 14 P

## 39-30-?14?_S_6
designator P?, comment HEADER  (value not drawn)
GateName_1: -1; SymbolName_1: P-NV; GateName_2: -2; SymbolName_2: P-N; GateName_3: -3; GateName_4: -4; GateName_5: -5; GateName_6: -6; GateName_7: -7; GateName_8: -8; GateName_9: -9; GateName_10: -10; GateName_11: -11; GateName_12: -12; GateName_13: -13; GateName_14: -14; DeviceSetName: 39-30-?14?_S; SymbolName_3: P-N; SymbolName_4: P-N; SymbolName_5: P-N; SymbolName_6: P-N; SymbolName_7: P-N; SymbolName_8: P-N; SymbolName_9: P-N; SymbolName_10: P-N; SymbolName_11: P-N; SymbolName_12: P-N; SymbolName_13: P-N; SymbolName_14: P-N; LibraryName: con-molex-mini-fit; Package: 39-30-?14?
footprint 39-30-?14?
part A pins: 1 P
part B pins: 2 P
part C pins: 3 P
part D pins: 4 P
part E pins: 5 P
part F pins: 6 P
part G pins: 7 P
part H pins: 8 P
part I pins: 9 P
part J pins: 10 P
part K pins: 11 P
part L pins: 12 P
part M pins: 13 P
part N pins: 14 P

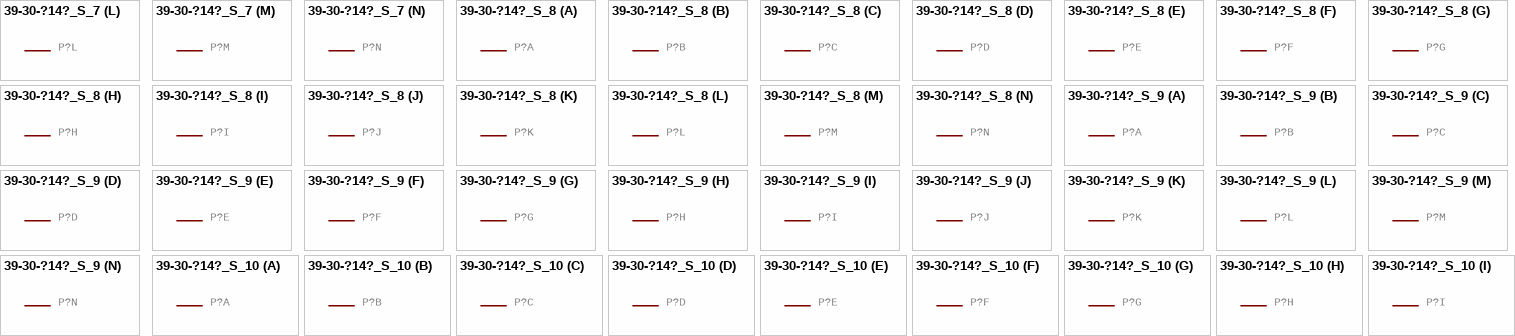
[diagram p12: symbols 39-30-?14?_S_7 to 39-30-?14?_S_10]

## 39-30-?14?_S_7
designator P?, comment HEADER  (value not drawn)
GateName_1: -1; SymbolName_1: P-NV; GateName_2: -2; SymbolName_2: P-N; GateName_3: -3; GateName_4: -4; GateName_5: -5; GateName_6: -6; GateName_7: -7; GateName_8: -8; GateName_9: -9; GateName_10: -10; GateName_11: -11; GateName_12: -12; GateName_13: -13; GateName_14: -14; DeviceSetName: 39-30-?14?_S; SymbolName_3: P-N; SymbolName_4: P-N; SymbolName_5: P-N; SymbolName_6: P-N; SymbolName_7: P-N; SymbolName_8: P-N; SymbolName_9: P-N; SymbolName_10: P-N; SymbolName_11: P-N; SymbolName_12: P-N; SymbolName_13: P-N; SymbolName_14: P-N; LibraryName: con-molex-mini-fit; Package: 39-30-?14?
footprint 39-30-?14?
part A pins: 1 P
part B pins: 2 P
part C pins: 3 P
part D pins: 4 P
part E pins: 5 P
part F pins: 6 P
part G pins: 7 P
part H pins: 8 P
part I pins: 9 P
part J pins: 10 P
part K pins: 11 P
part L pins: 12 P
part M pins: 13 P
part N pins: 14 P

## 39-30-?14?_S_8
designator P?, comment HEADER  (value not drawn)
GateName_1: -1; SymbolName_1: P-NV; GateName_2: -2; SymbolName_2: P-N; GateName_3: -3; GateName_4: -4; GateName_5: -5; GateName_6: -6; GateName_7: -7; GateName_8: -8; GateName_9: -9; GateName_10: -10; GateName_11: -11; GateName_12: -12; GateName_13: -13; GateName_14: -14; DeviceSetName: 39-30-?14?_S; SymbolName_3: P-N; SymbolName_4: P-N; SymbolName_5: P-N; SymbolName_6: P-N; SymbolName_7: P-N; SymbolName_8: P-N; SymbolName_9: P-N; SymbolName_10: P-N; SymbolName_11: P-N; SymbolName_12: P-N; SymbolName_13: P-N; SymbolName_14: P-N; LibraryName: con-molex-mini-fit; Package: 39-30-?14?
footprint 39-30-?14?
part A pins: 1 P
part B pins: 2 P
part C pins: 3 P
part D pins: 4 P
part E pins: 5 P
part F pins: 6 P
part G pins: 7 P
part H pins: 8 P
part I pins: 9 P
part J pins: 10 P
part K pins: 11 P
part L pins: 12 P
part M pins: 13 P
part N pins: 14 P

## 39-30-?14?_S_9
designator P?, comment HEADER  (value not drawn)
GateName_1: -1; SymbolName_1: P-NV; GateName_2: -2; SymbolName_2: P-N; GateName_3: -3; GateName_4: -4; GateName_5: -5; GateName_6: -6; GateName_7: -7; GateName_8: -8; GateName_9: -9; GateName_10: -10; GateName_11: -11; GateName_12: -12; GateName_13: -13; GateName_14: -14; DeviceSetName: 39-30-?14?_S; SymbolName_3: P-N; SymbolName_4: P-N; SymbolName_5: P-N; SymbolName_6: P-N; SymbolName_7: P-N; SymbolName_8: P-N; SymbolName_9: P-N; SymbolName_10: P-N; SymbolName_11: P-N; SymbolName_12: P-N; SymbolName_13: P-N; SymbolName_14: P-N; LibraryName: con-molex-mini-fit; Package: 39-30-?14?
footprint 39-30-?14?
part A pins: 1 P
part B pins: 2 P
part C pins: 3 P
part D pins: 4 P
part E pins: 5 P
part F pins: 6 P
part G pins: 7 P
part H pins: 8 P
part I pins: 9 P
part J pins: 10 P
part K pins: 11 P
part L pins: 12 P
part M pins: 13 P
part N pins: 14 P

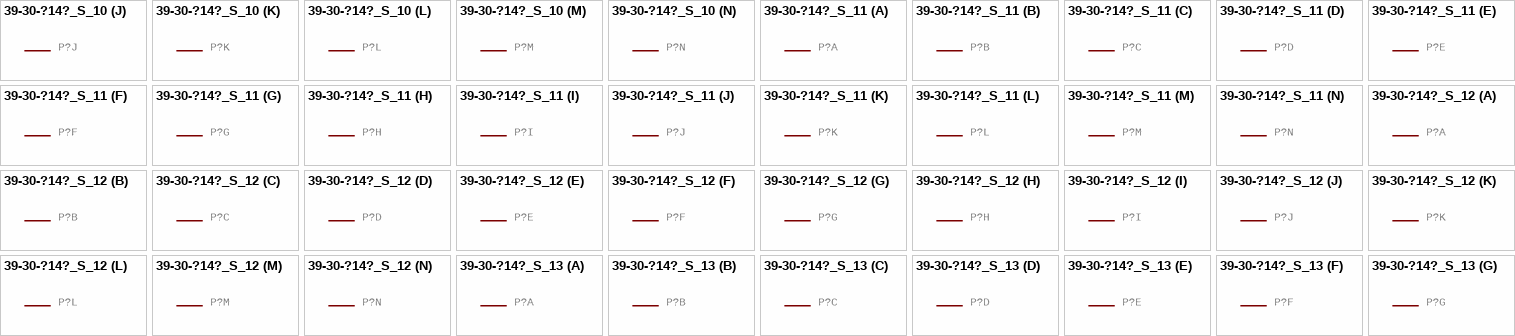
[diagram p13: symbols 39-30-?14?_S_10 to 39-30-?14?_S_13]

## 39-30-?14?_S_10
designator P?, comment HEADER  (value not drawn)
GateName_1: -1; SymbolName_1: P-NV; GateName_2: -2; SymbolName_2: P-N; GateName_3: -3; GateName_4: -4; GateName_5: -5; GateName_6: -6; GateName_7: -7; GateName_8: -8; GateName_9: -9; GateName_10: -10; GateName_11: -11; GateName_12: -12; GateName_13: -13; GateName_14: -14; DeviceSetName: 39-30-?14?_S; SymbolName_3: P-N; SymbolName_4: P-N; SymbolName_5: P-N; SymbolName_6: P-N; SymbolName_7: P-N; SymbolName_8: P-N; SymbolName_9: P-N; SymbolName_10: P-N; SymbolName_11: P-N; SymbolName_12: P-N; SymbolName_13: P-N; SymbolName_14: P-N; LibraryName: con-molex-mini-fit; Package: 39-30-?14?
footprint 39-30-?14?
part A pins: 1 P
part B pins: 2 P
part C pins: 3 P
part D pins: 4 P
part E pins: 5 P
part F pins: 6 P
part G pins: 7 P
part H pins: 8 P
part I pins: 9 P
part J pins: 10 P
part K pins: 11 P
part L pins: 12 P
part M pins: 13 P
part N pins: 14 P

## 39-30-?14?_S_11
designator P?, comment HEADER  (value not drawn)
GateName_1: -1; SymbolName_1: P-NV; GateName_2: -2; SymbolName_2: P-N; GateName_3: -3; GateName_4: -4; GateName_5: -5; GateName_6: -6; GateName_7: -7; GateName_8: -8; GateName_9: -9; GateName_10: -10; GateName_11: -11; GateName_12: -12; GateName_13: -13; GateName_14: -14; DeviceSetName: 39-30-?14?_S; SymbolName_3: P-N; SymbolName_4: P-N; SymbolName_5: P-N; SymbolName_6: P-N; SymbolName_7: P-N; SymbolName_8: P-N; SymbolName_9: P-N; SymbolName_10: P-N; SymbolName_11: P-N; SymbolName_12: P-N; SymbolName_13: P-N; SymbolName_14: P-N; LibraryName: con-molex-mini-fit; Package: 39-30-?14?
footprint 39-30-?14?
part A pins: 1 P
part B pins: 2 P
part C pins: 3 P
part D pins: 4 P
part E pins: 5 P
part F pins: 6 P
part G pins: 7 P
part H pins: 8 P
part I pins: 9 P
part J pins: 10 P
part K pins: 11 P
part L pins: 12 P
part M pins: 13 P
part N pins: 14 P

## 39-30-?14?_S_12
designator P?, comment HEADER  (value not drawn)
GateName_1: -1; SymbolName_1: P-NV; GateName_2: -2; SymbolName_2: P-N; GateName_3: -3; GateName_4: -4; GateName_5: -5; GateName_6: -6; GateName_7: -7; GateName_8: -8; GateName_9: -9; GateName_10: -10; GateName_11: -11; GateName_12: -12; GateName_13: -13; GateName_14: -14; DeviceSetName: 39-30-?14?_S; SymbolName_3: P-N; SymbolName_4: P-N; SymbolName_5: P-N; SymbolName_6: P-N; SymbolName_7: P-N; SymbolName_8: P-N; SymbolName_9: P-N; SymbolName_10: P-N; SymbolName_11: P-N; SymbolName_12: P-N; SymbolName_13: P-N; SymbolName_14: P-N; LibraryName: con-molex-mini-fit; Package: 39-30-?14?
footprint 39-30-?14?
part A pins: 1 P
part B pins: 2 P
part C pins: 3 P
part D pins: 4 P
part E pins: 5 P
part F pins: 6 P
part G pins: 7 P
part H pins: 8 P
part I pins: 9 P
part J pins: 10 P
part K pins: 11 P
part L pins: 12 P
part M pins: 13 P
part N pins: 14 P

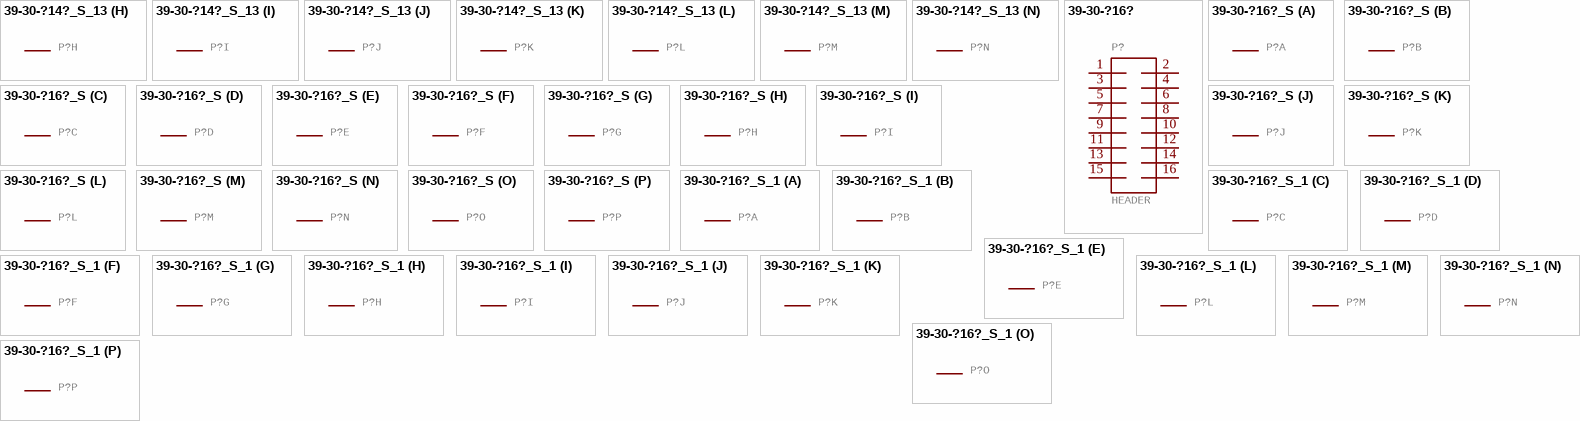
[diagram p14: symbols 39-30-?14?_S_13 to 39-30-?16?_S_1]

## 39-30-?14?_S_13
designator P?, comment HEADER  (value not drawn)
GateName_1: -1; SymbolName_1: P-NV; GateName_2: -2; SymbolName_2: P-N; GateName_3: -3; GateName_4: -4; GateName_5: -5; GateName_6: -6; GateName_7: -7; GateName_8: -8; GateName_9: -9; GateName_10: -10; GateName_11: -11; GateName_12: -12; GateName_13: -13; GateName_14: -14; DeviceSetName: 39-30-?14?_S; SymbolName_3: P-N; SymbolName_4: P-N; SymbolName_5: P-N; SymbolName_6: P-N; SymbolName_7: P-N; SymbolName_8: P-N; SymbolName_9: P-N; SymbolName_10: P-N; SymbolName_11: P-N; SymbolName_12: P-N; SymbolName_13: P-N; SymbolName_14: P-N; LibraryName: con-molex-mini-fit; Package: 39-30-?14?
footprint 39-30-?14?
part A pins: 1 P
part B pins: 2 P
part C pins: 3 P
part D pins: 4 P
part E pins: 5 P
part F pins: 6 P
part G pins: 7 P
part H pins: 8 P
part I pins: 9 P
part J pins: 10 P
part K pins: 11 P
part L pins: 12 P
part M pins: 13 P
part N pins: 14 P

## 39-30-?16?
designator P?, comment HEADER
GateName_1: G$1; SymbolName_1: MA08-2; DeviceSetName: 39-30-?16?; LibraryName: con-molex-mini-fit; Package: 39-30-?16?
footprint 39-30-?16?
pins: 1, 2, 3, 4, 5, 6, 7, 8, 9, 10, 11, 12, 13, 14, 15, 16

## 39-30-?16?_S
designator P?, comment HEADER  (value not drawn)
GateName_1: -1; SymbolName_1: P-NV; GateName_2: -2; SymbolName_2: P-N; GateName_3: -3; GateName_4: -4; GateName_5: -5; GateName_6: -6; GateName_7: -7; GateName_8: -8; GateName_9: -9; GateName_10: -10; GateName_11: -11; GateName_12: -12; GateName_13: -13; GateName_14: -14; GateName_15: -15; GateName_16: -16; DeviceSetName: 39-30-?16?_S; SymbolName_3: P-N; SymbolName_4: P-N; SymbolName_5: P-N; SymbolName_6: P-N; SymbolName_7: P-N; SymbolName_8: P-N; SymbolName_9: P-N; SymbolName_10: P-N; SymbolName_11: P-N; SymbolName_12: P-N; SymbolName_13: P-N; SymbolName_14: P-N; SymbolName_15: P-N; SymbolName_16: P-N; LibraryName: con-molex-mini-fit; Package: 39-30-?16?
footprint 39-30-?16?
part A pins: 1 P
part B pins: 2 P
part C pins: 3 P
part D pins: 4 P
part E pins: 5 P
part F pins: 6 P
part G pins: 7 P
part H pins: 8 P
part I pins: 9 P
part J pins: 10 P
part K pins: 11 P
part L pins: 12 P
part M pins: 13 P
part N pins: 14 P
part O pins: 15 P
part P pins: 16 P

## 39-30-?16?_S_1
designator P?, comment HEADER  (value not drawn)
GateName_1: -1; SymbolName_1: P-NV; GateName_2: -2; SymbolName_2: P-N; GateName_3: -3; GateName_4: -4; GateName_5: -5; GateName_6: -6; GateName_7: -7; GateName_8: -8; GateName_9: -9; GateName_10: -10; GateName_11: -11; GateName_12: -12; GateName_13: -13; GateName_14: -14; GateName_15: -15; GateName_16: -16; DeviceSetName: 39-30-?16?_S; SymbolName_3: P-N; SymbolName_4: P-N; SymbolName_5: P-N; SymbolName_6: P-N; SymbolName_7: P-N; SymbolName_8: P-N; SymbolName_9: P-N; SymbolName_10: P-N; SymbolName_11: P-N; SymbolName_12: P-N; SymbolName_13: P-N; SymbolName_14: P-N; SymbolName_15: P-N; SymbolName_16: P-N; LibraryName: con-molex-mini-fit; Package: 39-30-?16?
footprint 39-30-?16?
part A pins: 1 P
part B pins: 2 P
part C pins: 3 P
part D pins: 4 P
part E pins: 5 P
part F pins: 6 P
part G pins: 7 P
part H pins: 8 P
part I pins: 9 P
part J pins: 10 P
part K pins: 11 P
part L pins: 12 P
part M pins: 13 P
part N pins: 14 P
part O pins: 15 P
part P pins: 16 P

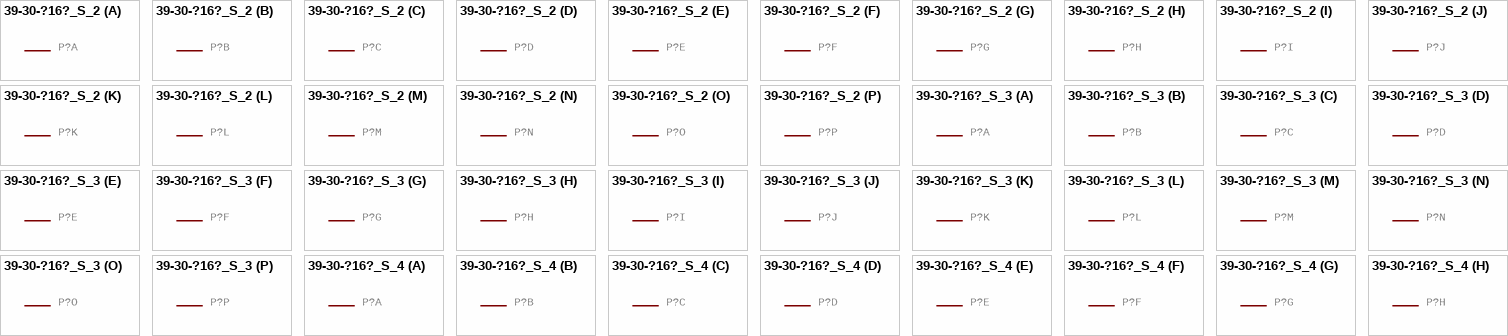
[diagram p15: symbols 39-30-?16?_S_2 to 39-30-?16?_S_4]

## 39-30-?16?_S_2
designator P?, comment HEADER  (value not drawn)
GateName_1: -1; SymbolName_1: P-NV; GateName_2: -2; SymbolName_2: P-N; GateName_3: -3; GateName_4: -4; GateName_5: -5; GateName_6: -6; GateName_7: -7; GateName_8: -8; GateName_9: -9; GateName_10: -10; GateName_11: -11; GateName_12: -12; GateName_13: -13; GateName_14: -14; GateName_15: -15; GateName_16: -16; DeviceSetName: 39-30-?16?_S; SymbolName_3: P-N; SymbolName_4: P-N; SymbolName_5: P-N; SymbolName_6: P-N; SymbolName_7: P-N; SymbolName_8: P-N; SymbolName_9: P-N; SymbolName_10: P-N; SymbolName_11: P-N; SymbolName_12: P-N; SymbolName_13: P-N; SymbolName_14: P-N; SymbolName_15: P-N; SymbolName_16: P-N; LibraryName: con-molex-mini-fit; Package: 39-30-?16?
footprint 39-30-?16?
part A pins: 1 P
part B pins: 2 P
part C pins: 3 P
part D pins: 4 P
part E pins: 5 P
part F pins: 6 P
part G pins: 7 P
part H pins: 8 P
part I pins: 9 P
part J pins: 10 P
part K pins: 11 P
part L pins: 12 P
part M pins: 13 P
part N pins: 14 P
part O pins: 15 P
part P pins: 16 P

## 39-30-?16?_S_3
designator P?, comment HEADER  (value not drawn)
GateName_1: -1; SymbolName_1: P-NV; GateName_2: -2; SymbolName_2: P-N; GateName_3: -3; GateName_4: -4; GateName_5: -5; GateName_6: -6; GateName_7: -7; GateName_8: -8; GateName_9: -9; GateName_10: -10; GateName_11: -11; GateName_12: -12; GateName_13: -13; GateName_14: -14; GateName_15: -15; GateName_16: -16; DeviceSetName: 39-30-?16?_S; SymbolName_3: P-N; SymbolName_4: P-N; SymbolName_5: P-N; SymbolName_6: P-N; SymbolName_7: P-N; SymbolName_8: P-N; SymbolName_9: P-N; SymbolName_10: P-N; SymbolName_11: P-N; SymbolName_12: P-N; SymbolName_13: P-N; SymbolName_14: P-N; SymbolName_15: P-N; SymbolName_16: P-N; LibraryName: con-molex-mini-fit; Package: 39-30-?16?
footprint 39-30-?16?
part A pins: 1 P
part B pins: 2 P
part C pins: 3 P
part D pins: 4 P
part E pins: 5 P
part F pins: 6 P
part G pins: 7 P
part H pins: 8 P
part I pins: 9 P
part J pins: 10 P
part K pins: 11 P
part L pins: 12 P
part M pins: 13 P
part N pins: 14 P
part O pins: 15 P
part P pins: 16 P

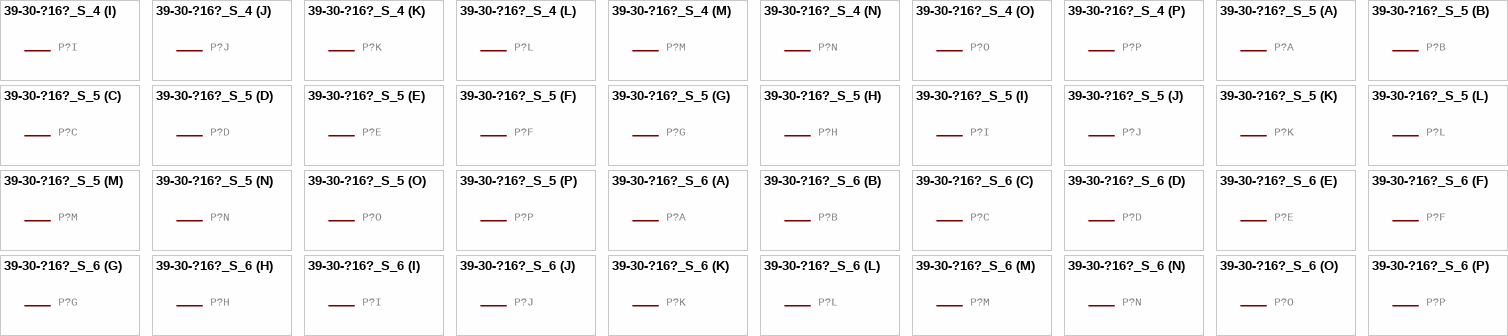
[diagram p16: symbols 39-30-?16?_S_4 to 39-30-?16?_S_6]

## 39-30-?16?_S_4
designator P?, comment HEADER  (value not drawn)
GateName_1: -1; SymbolName_1: P-NV; GateName_2: -2; SymbolName_2: P-N; GateName_3: -3; GateName_4: -4; GateName_5: -5; GateName_6: -6; GateName_7: -7; GateName_8: -8; GateName_9: -9; GateName_10: -10; GateName_11: -11; GateName_12: -12; GateName_13: -13; GateName_14: -14; GateName_15: -15; GateName_16: -16; DeviceSetName: 39-30-?16?_S; SymbolName_3: P-N; SymbolName_4: P-N; SymbolName_5: P-N; SymbolName_6: P-N; SymbolName_7: P-N; SymbolName_8: P-N; SymbolName_9: P-N; SymbolName_10: P-N; SymbolName_11: P-N; SymbolName_12: P-N; SymbolName_13: P-N; SymbolName_14: P-N; SymbolName_15: P-N; SymbolName_16: P-N; LibraryName: con-molex-mini-fit; Package: 39-30-?16?
footprint 39-30-?16?
part A pins: 1 P
part B pins: 2 P
part C pins: 3 P
part D pins: 4 P
part E pins: 5 P
part F pins: 6 P
part G pins: 7 P
part H pins: 8 P
part I pins: 9 P
part J pins: 10 P
part K pins: 11 P
part L pins: 12 P
part M pins: 13 P
part N pins: 14 P
part O pins: 15 P
part P pins: 16 P

## 39-30-?16?_S_5
designator P?, comment HEADER  (value not drawn)
GateName_1: -1; SymbolName_1: P-NV; GateName_2: -2; SymbolName_2: P-N; GateName_3: -3; GateName_4: -4; GateName_5: -5; GateName_6: -6; GateName_7: -7; GateName_8: -8; GateName_9: -9; GateName_10: -10; GateName_11: -11; GateName_12: -12; GateName_13: -13; GateName_14: -14; GateName_15: -15; GateName_16: -16; DeviceSetName: 39-30-?16?_S; SymbolName_3: P-N; SymbolName_4: P-N; SymbolName_5: P-N; SymbolName_6: P-N; SymbolName_7: P-N; SymbolName_8: P-N; SymbolName_9: P-N; SymbolName_10: P-N; SymbolName_11: P-N; SymbolName_12: P-N; SymbolName_13: P-N; SymbolName_14: P-N; SymbolName_15: P-N; SymbolName_16: P-N; LibraryName: con-molex-mini-fit; Package: 39-30-?16?
footprint 39-30-?16?
part A pins: 1 P
part B pins: 2 P
part C pins: 3 P
part D pins: 4 P
part E pins: 5 P
part F pins: 6 P
part G pins: 7 P
part H pins: 8 P
part I pins: 9 P
part J pins: 10 P
part K pins: 11 P
part L pins: 12 P
part M pins: 13 P
part N pins: 14 P
part O pins: 15 P
part P pins: 16 P

## 39-30-?16?_S_6
designator P?, comment HEADER  (value not drawn)
GateName_1: -1; SymbolName_1: P-NV; GateName_2: -2; SymbolName_2: P-N; GateName_3: -3; GateName_4: -4; GateName_5: -5; GateName_6: -6; GateName_7: -7; GateName_8: -8; GateName_9: -9; GateName_10: -10; GateName_11: -11; GateName_12: -12; GateName_13: -13; GateName_14: -14; GateName_15: -15; GateName_16: -16; DeviceSetName: 39-30-?16?_S; SymbolName_3: P-N; SymbolName_4: P-N; SymbolName_5: P-N; SymbolName_6: P-N; SymbolName_7: P-N; SymbolName_8: P-N; SymbolName_9: P-N; SymbolName_10: P-N; SymbolName_11: P-N; SymbolName_12: P-N; SymbolName_13: P-N; SymbolName_14: P-N; SymbolName_15: P-N; SymbolName_16: P-N; LibraryName: con-molex-mini-fit; Package: 39-30-?16?
footprint 39-30-?16?
part A pins: 1 P
part B pins: 2 P
part C pins: 3 P
part D pins: 4 P
part E pins: 5 P
part F pins: 6 P
part G pins: 7 P
part H pins: 8 P
part I pins: 9 P
part J pins: 10 P
part K pins: 11 P
part L pins: 12 P
part M pins: 13 P
part N pins: 14 P
part O pins: 15 P
part P pins: 16 P

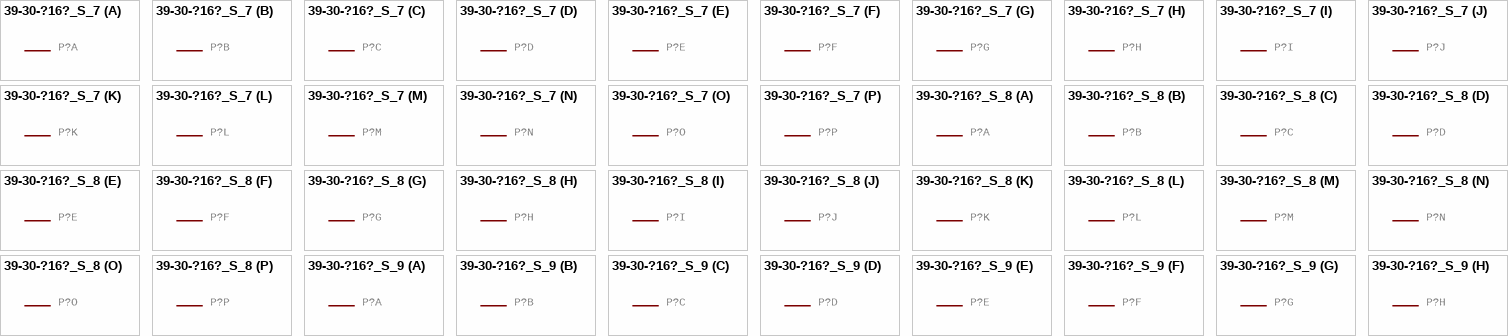
[diagram p17: symbols 39-30-?16?_S_7 to 39-30-?16?_S_9]